# EAGLE library part LCD-GLCD-128X64 (library mylib)
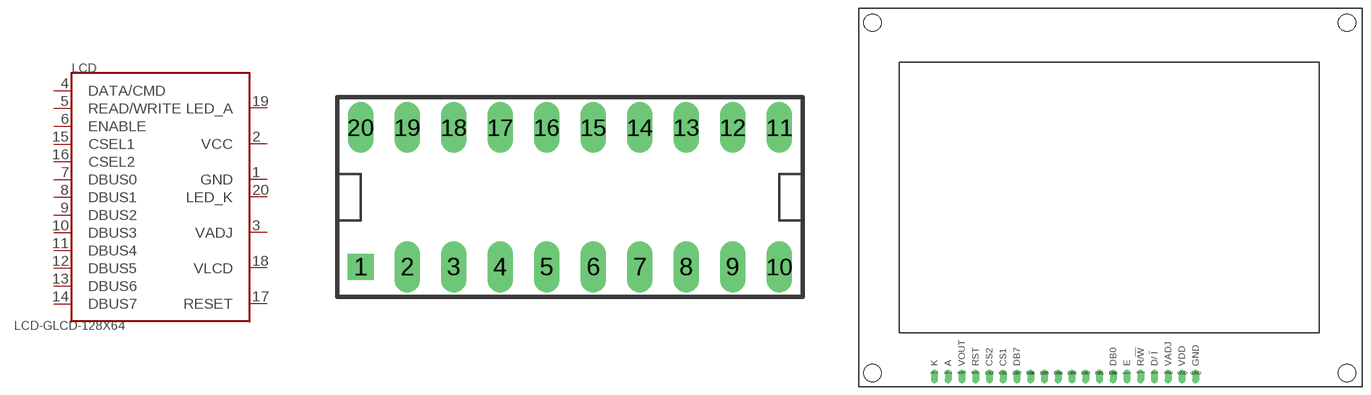
[diagram p39: symbol with the pads of CON-FLAT-DIL20; footprints CON-FLAT-DIL20, LCD-GLCD-128X64]

Designator prefix LCD

## LCD-GLCD-128X64C  [CON-FLAT-DIL20]
1  GND
2  VCC
3  VADJ
4  DATA/CMD
5  READ/WRITE
6  ENABLE
7  DBUS0
8  DBUS1
9  DBUS2
10  DBUS3
11  DBUS4
12  DBUS5
13  DBUS6
14  DBUS7
15  CSEL1
16  CSEL2
17  RESET
18  VLCD
19  LED_A
20  LED_K

## LCD-GLCD-128X64A  [CON-FLAT-DIL20]
1  VCC
2  DATA/CMD
3  ENABLE
4  DBUS1
5  DBUS3
6  DBUS5
7  DBUS7
8  CSEL2
9  VLCD
10  LED_K
11  LED_A
12  RESET
13  CSEL1
14  DBUS6
15  DBUS4
16  DBUS2
17  DBUS0
18  READ/WRITE
19  VADJ
20  GND

## LCD-GLCD-128X64B  [CON-FLAT-DIL20]
1  VCC
2  READ/WRITE
3  DBUS0
4  DBUS2
5  DBUS4
6  DBUS6
7  CSEL1
8  RESET
9  LED_A
10  LED_K
11  VADJ
12  VLCD
13  CSEL2
14  DBUS7
15  DBUS5
16  DBUS3
17  DBUS1
18  ENABLE
19  DATA/CMD
20  GND

## LCD-GLCD-128X64  [LCD-GLCD-128X64]
CS1  CSEL1
CS2  CSEL2
DATA/CMD  DATA/CMD
DB0  DBUS0
DB1  DBUS1
DB2  DBUS2
DB3  DBUS3
DB4  DBUS4
DB5  DBUS5
DB6  DBUS6
DB7  DBUS7
ENABLE  ENABLE
GND  GND
LED_A  LED_A
LED_K  LED_K
READ/WRITE  READ/WRITE
RESET  RESET
VADJ  VADJ
VDD  VCC
VOUT  VLCD

## Footprint CON-FLAT-DIL20 (pad centres in mm)
drill 0.889 square: 1 -11.43,-3.81
drill 0.889 long: 2 -8.89,-3.81; 3 -6.35,-3.81; 4 -3.81,-3.81; 5 -1.27,-3.81; 6 1.27,-3.81; 7 3.81,-3.81; 8 6.35,-3.81; 9 8.89,-3.81; 10 11.43,-3.81; 11 11.43,3.81; 12 8.89,3.81; 13 6.35,3.81; 14 3.81,3.81; 15 1.27,3.81; 16 -1.27,3.81; 17 -3.81,3.81; 18 -6.35,3.81; 19 -8.89,3.81; 20 -11.43,3.81

## Footprint LCD-GLCD-128X64 (pad centres in mm)
drill 0.8 offset: CS1 26.67,2.54; CS2 24.13,2.54; DATA/CMD 54.61,2.54; DB0 46.99,2.54; DB1 44.45,2.54; DB2 41.91,2.54; DB3 39.37,2.54; DB4 36.83,2.54; DB5 34.29,2.54; DB6 31.75,2.54; DB7 29.21,2.54; ENABLE 49.53,2.54; GND 62.23,2.54; LED_A 16.51,2.54; LED_K 13.97,2.54; READ/WRITE 52.07,2.54; RESET 21.59,2.54; VADJ 57.15,2.54; VDD 59.69,2.54; VOUT 19.05,2.54
hole 3.2 at 2.54,67.31
hole 3.2 at 2.54,2.54
hole 3.2 at 90.17,2.54
hole 3.2 at 90.17,67.31